# Altium footprint library FUS2018.PcbLib: 1 footprints
Each footprint in its own frame and in the unit in brackets; x right, y up, seen from the top. Pads: shape width x height; smd on the part's side, far side on the other; paste and mask are expansions set on the pad; w line width, h text height; cw(c..) or ccw(c..) is an arc to the next point about the centre after c.
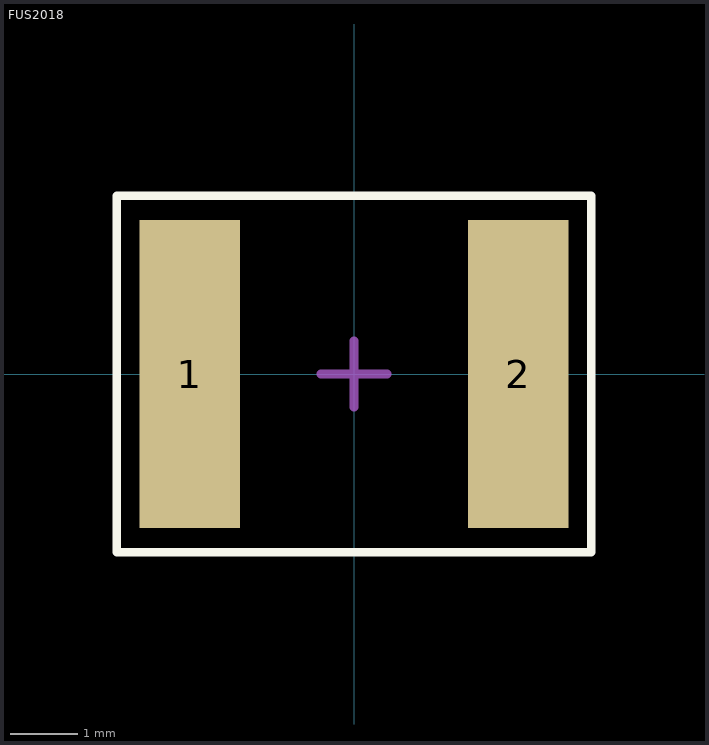
[diagram p0: the footprint, top view; thin cyan lines are the x and y axes]

## FUS2018 [mm]
height 0.7
pads (2):
  rect 1.5x4.6 smd: 1(-2.45,0) 2(2.45,0)
Top Overlay:
  lines w0.127: -3.542,-2.659 -3.542,2.659 3.542,2.659 3.542,-2.659 -3.542,-2.659
Mechanical 15:
  lines w0.127: -0.5,0 0.5,0 ; 0,-0.5 0,0.5
3D body: height 2.03, standoff 0, extent -2.695,-2.235 2.745,2.275